# EAGLE library part STM32F373C (library kmod-testing)
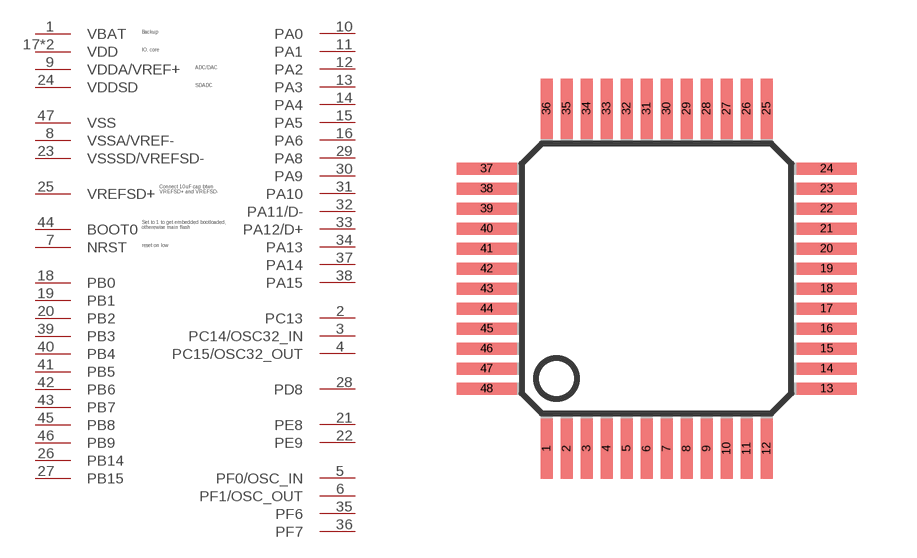
[diagram p0: symbol with the pads of TQFP48_LONGPAD; footprint TQFP48_LONGPAD]

Designator prefix -

## STM32F373C  [TQFP48_LONGPAD]
1  VBAT  pwr
2  PC13
3  PC14/OSC32_IN
4  PC15/OSC32_OUT
5  PF0/OSC_IN
6  PF1/OSC_OUT
7  NRST  in
8  VSSA/VREF-  pwr
9  VDDA/VREF+  pwr
10  PA0
11  PA1
12  PA2
13  PA3
14  PA4
15  PA5
16  PA6
17  VDD  pwr
18  PB0
19  PB1
20  PB2
21  PE8
22  PE9  pwr
23  VSSSD/VREFSD-  pwr
24  VDDSD  pwr
25  VREFSD+  pwr
26  PB14
27  PB15
28  PD8  pwr
29  PA8
30  PA9
31  PA10
32  PA11/D-
33  PA12/D+
34  PA13
35  PF6
36  PF7  pwr
37  PA14
38  PA15
39  PB3
40  PB4
41  PB5
42  PB6
43  PB7
44  BOOT0  in
45  PB8
46  PB9
47  VSS  pwr
48  VDD  pwr

## Footprint TQFP48_LONGPAD (pad centres in mm)
Thin Quad Flat Pack
smd 0.3 x 1.5: 1 -2.75,-4.25; 2 -2.25,-4.25; 3 -1.75,-4.25; 4 -1.25,-4.25; 5 -0.75,-4.25; 6 -0.25,-4.25; 7 0.25,-4.25; 8 0.75,-4.25; 9 1.25,-4.25; 10 1.75,-4.25; 11 2.25,-4.25; 12 2.75,-4.25; 25 2.75,4.25; 26 2.25,4.25; 27 1.75,4.25; 28 1.25,4.25; 29 0.75,4.25; 30 0.25,4.25; 31 -0.25,4.25; 32 -0.75,4.25; 33 -1.25,4.25; 34 -1.75,4.25; 35 -2.25,4.25; 36 -2.75,4.25
smd 1.5 x 0.3: 13 4.25,-2.75; 14 4.25,-2.25; 15 4.25,-1.75; 16 4.25,-1.25; 17 4.25,-0.75; 18 4.25,-0.25; 19 4.25,0.25; 20 4.25,0.75; 21 4.25,1.25; 22 4.25,1.75; 23 4.25,2.25; 24 4.25,2.75; 37 -4.25,2.75; 38 -4.25,2.25; 39 -4.25,1.75; 40 -4.25,1.25; 41 -4.25,0.75; 42 -4.25,0.25; 43 -4.25,-0.25; 44 -4.25,-0.75; 45 -4.25,-1.25; 46 -4.25,-1.75; 47 -4.25,-2.25; 48 -4.25,-2.75